# EAGLE library part 0512965094 (library 0512965094)
CONN FFC BOTTOM 50POS 0.50MM R/A Source: Datasheet <https://www.molex.com/pdm_docs/sd/512965094_sd.pdf>
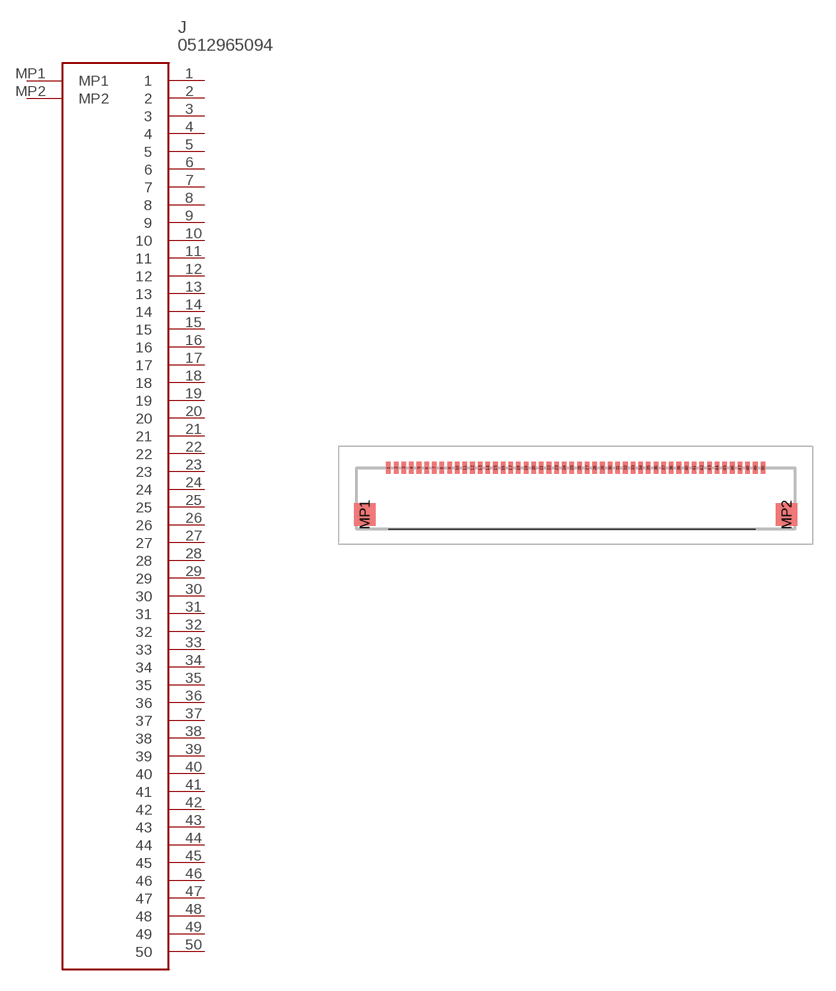
[diagram p0: symbol with the pads of 0512965094; footprint 0512965094]

Designator prefix J

## 0512965094 (Arrow_Part_Number: 0512965094; Arrow_Price-Stock: https://www.arrow.com/en/products/0512965094/molex; Description: CONN FFC BOTTOM 50POS 0.50MM R/A; Height: 1.5mm; Manufacturer_Name: Molex; Manufacturer_Part_Number: 0512965094)  [0512965094]
1  1
2  2
3  3
4  4
5  5
6  6
7  7
8  8
9  9
10  10
11  11
12  12
13  13
14  14
15  15
16  16
17  17
18  18
19  19
20  20
21  21
22  22
23  23
24  24
25  25
26  26
27  27
28  28
29  29
30  30
31  31
32  32
33  33
34  34
35  35
36  36
37  37
38  38
39  39
40  40
41  41
42  42
43  43
44  44
45  45
46  46
47  47
48  48
49  49
50  50
MP1  MP1
MP2  MP2

## Footprint 0512965094 (pad centres in mm)
0512965094-2
smd 0.3 x 0.8: 1 -12.25,2; 2 -11.75,2; 3 -11.25,2; 4 -10.75,2; 5 -10.25,2; 6 -9.75,2; 7 -9.25,2; 8 -8.75,2; 9 -8.25,2; 10 -7.75,2; 11 -7.25,2; 12 -6.75,2; 13 -6.25,2; 14 -5.75,2; 15 -5.25,2; 16 -4.75,2; 17 -4.25,2; 18 -3.75,2; 19 -3.25,2; 20 -2.75,2; 21 -2.25,2; 22 -1.75,2; 23 -1.25,2; 24 -0.75,2; 25 -0.25,2; 26 0.25,2; 27 0.75,2; 28 1.25,2; 29 1.75,2; 30 2.25,2; 31 2.75,2; 32 3.25,2; 33 3.75,2; 34 4.25,2; 35 4.75,2; 36 5.25,2; 37 5.75,2; 38 6.25,2; 39 6.75,2; 40 7.25,2; 41 7.75,2; 42 8.25,2; 43 8.75,2; 44 9.25,2; 45 9.75,2; 46 10.25,2; 47 10.75,2; 48 11.25,2; 49 11.75,2; 50 12.25,2
smd 1.4 x 1.5: MP1 -13.8,-1.05; MP2 13.8,-1.05